# EAGLE library part RPI (library bt)
Raspberry Pi connector
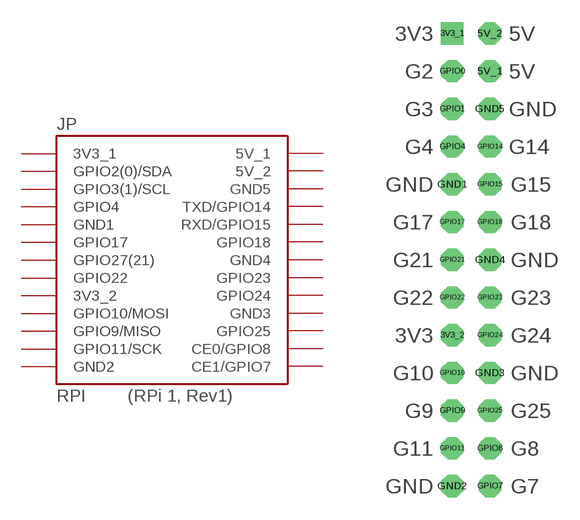
[diagram p11: symbol with the pads of RPI; footprint RPI]

Designator prefix JP

## RPI  [RPI]
3V3_1  3V3_1
3V3_2  3V3_2
5V_1  5V_1
5V_2  5V_2
GND1  GND1
GND2  GND2
GND3  GND3
GND4  GND4
GND5  GND5
GPIO0  GPIO2(0)/SDA
GPIO1  GPIO3(1)/SCL
GPIO4  GPIO4
GPIO7  CE1/GPIO7
GPIO8  CE0/GPIO8
GPIO9  GPIO9/MISO
GPIO10  GPIO10/MOSI
GPIO11  GPIO11/SCK
GPIO14  TXD/GPIO14
GPIO15  RXD/GPIO15
GPIO17  GPIO17
GPIO18  GPIO18
GPIO21  GPIO27(21)
GPIO22  GPIO22
GPIO23  GPIO23
GPIO24  GPIO24
GPIO25  GPIO25

## Footprint RPI (pad centres in mm)
drill 1 square: 3V3_1 -1.27,1.27
drill 1 octagon: 3V3_2 -1.27,-19.05; 5V_1 1.27,-1.27; 5V_2 1.27,1.27; GND1 -1.27,-8.89; GND2 -1.27,-29.21; GND3 1.27,-21.59; GND4 1.27,-13.97; GND5 1.27,-3.81; GPIO0 -1.27,-1.27; GPIO1 -1.27,-3.81; GPIO4 -1.27,-6.35; GPIO7 1.27,-29.21; GPIO8 1.27,-26.67; GPIO9 -1.27,-24.13; GPIO10 -1.27,-21.59; GPIO11 -1.27,-26.67; GPIO14 1.27,-6.35; GPIO15 1.27,-8.89; GPIO17 -1.27,-11.43; GPIO18 1.27,-11.43; GPIO21 -1.27,-13.97; GPIO22 -1.27,-16.51; GPIO23 1.27,-16.51; GPIO24 1.27,-19.05; GPIO25 1.27,-24.13